# Altium integrated library Avago LED Display 7-Segment, 4-Digit.IntLib: 17 symbols
Pins are listed as number, name and electrical type; pins without a type are passive.

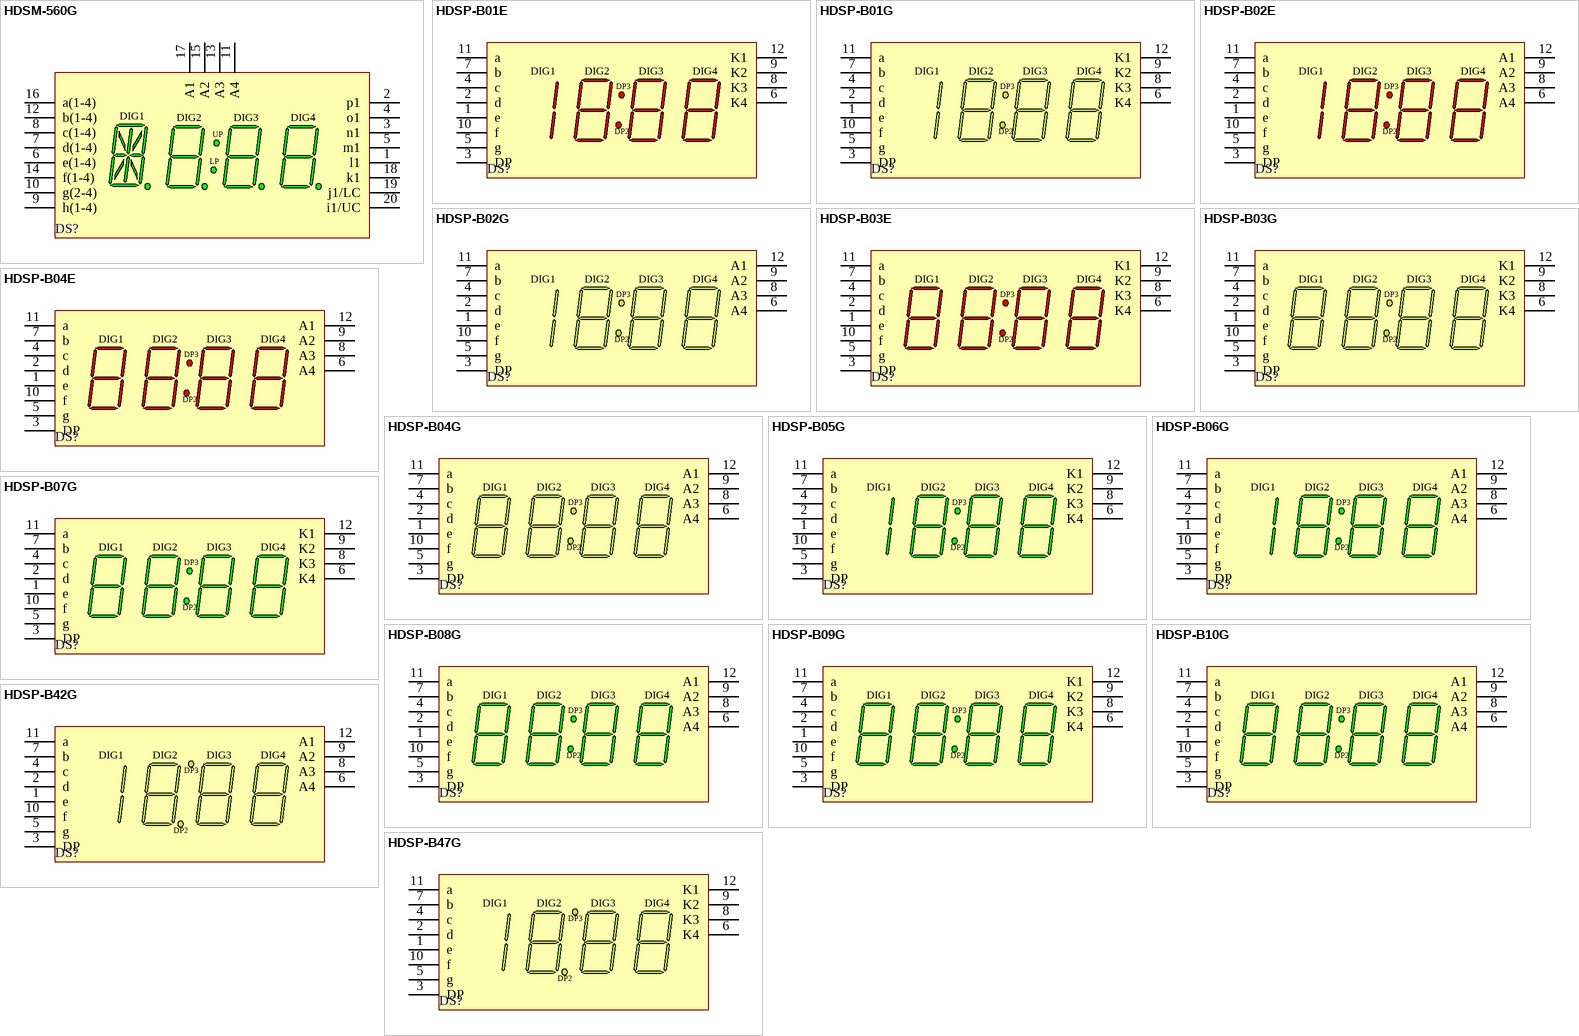
[diagram p0: symbols HDSM-560G to HDSP-B47G]

## HDSM-560G
designator DS?
8.9 mm Black Suface GAP Green 7-Segment Display: 4-Digit, CA; LuminousIntensity: 1250 ucd (Minimum).; Published: 26-May-2004; LatestRevisionDate: 11-Oct-2004; LatestRevisionNote: Display outline superimposed on PCB Footprint.; DatasheetVersion: 21-Jan-2002; PackageVersion: 21-Jan-2002; PackageReference: HDSM-560; Publisher: Altium Limited; PackageDescription: LED, 7-Segment Display, 8.9 mm, Four Digit; 20 Leads; Row Space 12 mm; Pitch 2.54 mm; LED_Colour: Green; ComponentLink1Description: Manufacturer Link; ComponentLink1URL: http://www.agilent.com/; ComponentLink2Description: Datasheet; ComponentLink2URL: http://cp.literature.agilent.com/litweb/pdf/5988-4936EN.pdf
footprint HDSM-560 (LED, 7-Segment Display, 8.9 mm, Four Digit; 20 Leads; Row Space 12 mm; Pitch 2.54 mm)
simulation model HDSM_560G (SUBCKT)
pins: 1 l1 "Digit 1 l Cathode", 2 p1 "Digit 1 p Cathode", 3 n1 "Digit 1 n Cathode", 4 o1 "Digit 1 o Cathode", 5 m1 "Digit 1 m Cathode", 6 e(1-4) "Digits (1-4) e Cathode", 7 d(1-4) "Digits (1-4) d Cathode", 8 c(1-4) "Digits (1-4) c Cathode", 9 h(1-4) "Digits (1-4) DP Cathode", 10 g(2-4) "Digits (2-4) g Cathode", 11 A4 "Digit 4 Common Anode", 12 b(1-4) "Digits (1-4) b Cathode", 13 A3 "Digit 3 Common Anode", 14 f(1-4) "Digits (1-4) f Cathode", 15 A2 "Digit 2 Common Anode", 16 a(1-4) "Digits (1-4) a Cathode", 17 A1 "Digit 1 Common Anode", 18 k1 "Digit 1 k Cathode", 19 j1/LC "Digit 1 j, LC Cathode", 20 i1/UC "Digit 1 i, UC Cathode"
text: DIG1; DIG2; DIG3; DIG4; UP; LP

## HDSP-B01E
designator DS?
14.22 mm GaP HER, Untinted, 18:88 4-Digit 7-Segment Display: CC, Gray Surface; LuminousIntensity: 3200 ucd (Minimum).; LED_Colour: High Efficiency Red (HER); Published: 26-May-2004; LatestRevisionDate: 02-Mar-2006; LatestRevisionNote: Footprint corrected.; DatasheetVersion: 21-Aug-2001; PackageVersion: 21-Aug-2001; PackageReference: B-18; Publisher: Altium Limited; PackageDescription: LED, 7-Segment Display, 14.22 mm, Four Digit, 18:88; 12 Leads; Row Space 15.24 mm; Pitch 2.54 mm; ComponentLink1Description: Manufacturer Link; ComponentLink1URL: http://www.agilent.com/; ComponentLink2Description: Datasheet; ComponentLink2URL: http://cp.literature.agilent.com/litweb/pdf/5988-3569EN.pdf
footprint B-18 (LED, 7-Segment Display, 14.22 mm, Four Digit, 18:88; 12 Leads; Row Space 15.24 mm; Pitch 2.54 mm)
simulation model HDSP_B01E (SUBCKT)
pins: 1 e "Digits (2-4) e Anode", 2 d "Digits (2-4) d Anode", 3 DP "Digits (2,3) DP Anode", 4 c "Digits (1-4) c Anode", 5 g "Digits (2-4) g Anode", 6 K4 "Digit 4 Common Cathode", 7 b "Digits (1-4) b Anode", 8 K3 "Digit 3 Common Cathode", 9 K2 "Digit 2 Common Cathode", 10 f "Digits (2-4) f Anode", 11 a "Digits (2-4) a Anode", 12 K1 "Digit 1 Common Cathode"
text: DIG1; DIG2; DIG3; DIG4; DP3; DP2

## HDSP-B01G
designator DS?
14.22 mm Tinted Green, 18:88 4-Digit 7-Segment Display: CC, Gray Surface; LuminousIntensity: 2000 ucd (Minimum).; Published: 26-May-2004; LatestRevisionDate: 02-Mar-2006; LatestRevisionNote: Footprint corrected.; DatasheetVersion: 23-Sep-2002; PackageVersion: 21-Aug-2001; PackageReference: B-18; Publisher: Altium Limited; PackageDescription: LED, 7-Segment Display, 14.22 mm, Four Digit, 18:88; 12 Leads; Row Space 15.24 mm; Pitch 2.54 mm; LED_Colour: Green; ComponentLink1Description: Manufacturer Link; ComponentLink1URL: http://www.agilent.com/; ComponentLink2Description: Datasheet; ComponentLink2URL: http://cp.literature.agilent.com/litweb/pdf/5988-7859EN.pdf
footprint B-18 (LED, 7-Segment Display, 14.22 mm, Four Digit, 18:88; 12 Leads; Row Space 15.24 mm; Pitch 2.54 mm)
simulation model HDSP_B01G (SUBCKT)
pins: 1 e "Digits (2-4) e Anode", 2 d "Digits (2-4) d Anode", 3 DP "Digits (2,3) DP Anode", 4 c "Digits (1-4) c Anode", 5 g "Digits (2-4) g Anode", 6 K4 "Digit 4 Common Cathode", 7 b "Digits (1-4) b Anode", 8 K3 "Digit 3 Common Cathode", 9 K2 "Digit 2 Common Cathode", 10 f "Digits (2-4) f Anode", 11 a "Digits (2-4) a Anode", 12 K1 "Digit 1 Common Cathode"
text: DIG1; DIG2; DIG3; DIG4; DP3; DP2

## HDSP-B02E
designator DS?
14.22 mm GaP HER, Untinted, 18:88 4-Digit 7-Segment Display: CA, Gray Surface; LuminousIntensity: 3200 ucd (Minimum).; LED_Colour: High Efficiency Red (HER); Published: 26-May-2004; LatestRevisionDate: 02-Mar-2006; LatestRevisionNote: Footprint corrected.; DatasheetVersion: 21-Aug-2001; PackageVersion: 21-Aug-2001; PackageReference: B-18; Publisher: Altium Limited; PackageDescription: LED, 7-Segment Display, 14.22 mm, Four Digit, 18:88; 12 Leads; Row Space 15.24 mm; Pitch 2.54 mm; ComponentLink1Description: Manufacturer Link; ComponentLink1URL: http://www.agilent.com/; ComponentLink2Description: Datasheet; ComponentLink2URL: http://cp.literature.agilent.com/litweb/pdf/5988-3569EN.pdf
footprint B-18 (LED, 7-Segment Display, 14.22 mm, Four Digit, 18:88; 12 Leads; Row Space 15.24 mm; Pitch 2.54 mm)
simulation model HDSP_B02E (SUBCKT)
pins: 1 e "Digits (2-4) e Cathode", 2 d "Digits (2-4) d Cathode", 3 DP "Digits (2,3) DP Cathode", 4 c "Digits (1-4) c Cathode", 5 g "Digits (2-4) g Cathode", 6 A4 "Digit 4 Common Anode", 7 b "Digits (1-4) b Cathode", 8 A3 "Digit 3 Common Anode", 9 A2 "Digit 2 Common Anode", 10 f "Digits (2-4) f Cathode", 11 a "Digits (2-4) a Cathode", 12 A1 "Digit 1 Common Anode"
text: DIG1; DIG2; DIG3; DIG4; DP3; DP2

## HDSP-B02G
designator DS?
14.22 mm Tinted Green, 18:88 4-Digit 7-Segment Display: CA, Gray Surface; LuminousIntensity: 2000 ucd (Minimum).; Published: 26-May-2004; LatestRevisionDate: 02-Mar-2006; LatestRevisionNote: Footprint corrected.; DatasheetVersion: 23-Sep-2002; PackageVersion: 21-Aug-2001; PackageReference: B-18; Publisher: Altium Limited; PackageDescription: LED, 7-Segment Display, 14.22 mm, Four Digit, 18:88; 12 Leads; Row Space 15.24 mm; Pitch 2.54 mm; LED_Colour: Green; ComponentLink1Description: Manufacturer Link; ComponentLink1URL: http://www.agilent.com/; ComponentLink2Description: Datasheet; ComponentLink2URL: http://cp.literature.agilent.com/litweb/pdf/5988-7859EN.pdf
footprint B-18 (LED, 7-Segment Display, 14.22 mm, Four Digit, 18:88; 12 Leads; Row Space 15.24 mm; Pitch 2.54 mm)
simulation model HDSP_B02G (SUBCKT)
pins: 1 e "Digits (2-4) e Cathode", 2 d "Digits (2-4) d Cathode", 3 DP "Digits (2,3) DP Cathode", 4 c "Digits (1-4) c Cathode", 5 g "Digits (2-4) g Cathode", 6 A4 "Digit 4 Common Anode", 7 b "Digits (1-4) b Cathode", 8 A3 "Digit 3 Common Anode", 9 A2 "Digit 2 Common Anode", 10 f "Digits (2-4) f Cathode", 11 a "Digits (2-4) a Cathode", 12 A1 "Digit 1 Common Anode"
text: DIG1; DIG2; DIG3; DIG4; DP3; DP2

## HDSP-B03E
designator DS?
14.22 mm GaP HER, Untinted, 88:88 4-Digit 7-Segment Display: CC, Gray Surface; LuminousIntensity: 3200 ucd (Minimum).; LED_Colour: High Efficiency Red (HER); Published: 26-May-2004; LatestRevisionDate: 11-Oct-2004; LatestRevisionNote: Display outline superimposed on PCB Footprint.; DatasheetVersion: 21-Aug-2001; PackageVersion: 21-Aug-2001; PackageReference: B-88; Publisher: Altium Limited; PackageDescription: LED, 7-Segment Display, 14.22 mm, Four Digit, 88:88; 12 Leads; Row Space 15.24 mm; Pitch 2.54 mm; ComponentLink1Description: Manufacturer Link; ComponentLink1URL: http://www.agilent.com/; ComponentLink2Description: Datasheet; ComponentLink2URL: http://cp.literature.agilent.com/litweb/pdf/5988-3569EN.pdf
footprint B-88 (LED, 7-Segment Display, 14.22 mm, Four Digit, 88:88; 12 Leads; Row Space 15.24 mm; Pitch 2.54 mm)
simulation model HDSP_B03E (SUBCKT)
pins: 1 e "Digits (1-4) e Anode", 2 d "Digits (1-4) d Anode", 3 DP "Digits (2,3) DP Anode", 4 c "Digits (1-4) c Anode", 5 g "Digits (1-4) g Anode", 6 K4 "Digit 4 Common Cathode", 7 b "Digits (1-4) b Anode", 8 K3 "Digit 3 Common Cathode", 9 K2 "Digit 2 Common Cathode", 10 f "Digits (1-4) f Anode", 11 a "Digits (1-4) a Anode", 12 K1 "Digit 1 Common Cathode"
text: DIG1; DIG2; DIG3; DIG4; DP3; DP2

## HDSP-B03G
designator DS?
14.22 mm Tinted Green, 88:88 4-Digit 7-Segment Display: CC, Gray Surface; LuminousIntensity: 2000 ucd (Minimum).; Published: 26-May-2004; LatestRevisionDate: 11-Oct-2004; LatestRevisionNote: Display outline superimposed on PCB Footprint.; DatasheetVersion: 23-Sep-2002; PackageVersion: 21-Aug-2001; PackageReference: B-88; Publisher: Altium Limited; PackageDescription: LED, 7-Segment Display, 14.22 mm, Four Digit, 88:88; 12 Leads; Row Space 15.24 mm; Pitch 2.54 mm; LED_Colour: Green; ComponentLink1Description: Manufacturer Link; ComponentLink1URL: http://www.agilent.com/; ComponentLink2Description: Datasheet; ComponentLink2URL: http://cp.literature.agilent.com/litweb/pdf/5988-7859EN.pdf
footprint B-88 (LED, 7-Segment Display, 14.22 mm, Four Digit, 88:88; 12 Leads; Row Space 15.24 mm; Pitch 2.54 mm)
simulation model HDSP_B03G (SUBCKT)
pins: 1 e "Digits (1-4) e Anode", 2 d "Digits (1-4) d Anode", 3 DP "Digits (2,3) DP Anode", 4 c "Digits (1-4) c Anode", 5 g "Digits (1-4) g Anode", 6 K4 "Digit 4 Common Cathode", 7 b "Digits (1-4) b Anode", 8 K3 "Digit 3 Common Cathode", 9 K2 "Digit 2 Common Cathode", 10 f "Digits (1-4) f Anode", 11 a "Digits (1-4) a Anode", 12 K1 "Digit 1 Common Cathode"
text: DIG1; DIG2; DIG3; DIG4; DP3; DP2

## HDSP-B04E
designator DS?
14.22 mm GaP HER, Untinted, 88:88 4-Digit 7-Segment Display: CA, Gray Surface; LuminousIntensity: 3200 ucd (Minimum).; LED_Colour: High Efficiency Red (HER); Published: 26-May-2004; LatestRevisionDate: 11-Oct-2004; LatestRevisionNote: Display outline superimposed on PCB Footprint.; DatasheetVersion: 21-Aug-2001; PackageVersion: 21-Aug-2001; PackageReference: B-88; Publisher: Altium Limited; PackageDescription: LED, 7-Segment Display, 14.22 mm, Four Digit, 88:88; 12 Leads; Row Space 15.24 mm; Pitch 2.54 mm; ComponentLink1Description: Manufacturer Link; ComponentLink1URL: http://www.agilent.com/; ComponentLink2Description: Datasheet; ComponentLink2URL: http://cp.literature.agilent.com/litweb/pdf/5988-3569EN.pdf
footprint B-88 (LED, 7-Segment Display, 14.22 mm, Four Digit, 88:88; 12 Leads; Row Space 15.24 mm; Pitch 2.54 mm)
simulation model HDSP_B04E (SUBCKT)
pins: 1 e "Digits (1-4) e Cathode", 2 d "Digits (1-4) d Cathode", 3 DP "Digits (2,3) DP Cathode", 4 c "Digits (1-4) c Cathode", 5 g "Digits (1-4) g Cathode", 6 A4 "Digit 4 Common Anode", 7 b "Digits (1-4) b Cathode", 8 A3 "Digit 3 Common Anode", 9 A2 "Digit 2 Common Anode", 10 f "Digits (1-4) f Cathode", 11 a "Digits (1-4) a Cathode", 12 A1 "Digit 1 Common Anode"
text: DIG1; DIG2; DIG3; DIG4; DP3; DP2

## HDSP-B04G
designator DS?
14.22 mm Tinted Green, 88:88 4-Digit 7-Segment Display: CA, Gray Surface; LuminousIntensity: 2000 ucd (Minimum).; Published: 26-May-2004; LatestRevisionDate: 11-Oct-2004; LatestRevisionNote: Display outline superimposed on PCB Footprint.; DatasheetVersion: 23-Sep-2002; PackageVersion: 21-Aug-2001; PackageReference: B-88; Publisher: Altium Limited; PackageDescription: LED, 7-Segment Display, 14.22 mm, Four Digit, 88:88; 12 Leads; Row Space 15.24 mm; Pitch 2.54 mm; LED_Colour: Green; ComponentLink1Description: Manufacturer Link; ComponentLink1URL: http://www.agilent.com/; ComponentLink2Description: Datasheet; ComponentLink2URL: http://cp.literature.agilent.com/litweb/pdf/5988-7859EN.pdf
footprint B-88 (LED, 7-Segment Display, 14.22 mm, Four Digit, 88:88; 12 Leads; Row Space 15.24 mm; Pitch 2.54 mm)
simulation model HDSP_B04G (SUBCKT)
pins: 1 e "Digits (1-4) e Cathode", 2 d "Digits (1-4) d Cathode", 3 DP "Digits (2,3) DP Cathode", 4 c "Digits (1-4) c Cathode", 5 g "Digits (1-4) g Cathode", 6 A4 "Digit 4 Common Anode", 7 b "Digits (1-4) b Cathode", 8 A3 "Digit 3 Common Anode", 9 A2 "Digit 2 Common Anode", 10 f "Digits (1-4) f Cathode", 11 a "Digits (1-4) a Cathode", 12 A1 "Digit 1 Common Anode"
text: DIG1; DIG2; DIG3; DIG4; DP3; DP2

## HDSP-B05G
designator DS?
14.22 mm Untinted, 18:88 4-Digit 7-Segment Display: CC, Gray Surface; LuminousIntensity: 3200 ucd (Minimum).; LED_Colour: Green; Published: 26-May-2004; LatestRevisionDate: 02-Mar-2006; LatestRevisionNote: Footprint corrected.; DatasheetVersion: 23-Sep-2002; PackageVersion: 21-Aug-2001; PackageReference: B-18; Publisher: Altium Limited; PackageDescription: LED, 7-Segment Display, 14.22 mm, Four Digit, 18:88; 12 Leads; Row Space 15.24 mm; Pitch 2.54 mm; ComponentLink1Description: Manufacturer Link; ComponentLink1URL: http://www.agilent.com/; ComponentLink2Description: Datasheet; ComponentLink2URL: http://cp.literature.agilent.com/litweb/pdf/5988-7859EN.pdf
footprint B-18 (LED, 7-Segment Display, 14.22 mm, Four Digit, 18:88; 12 Leads; Row Space 15.24 mm; Pitch 2.54 mm)
simulation model HDSP_B01G (SUBCKT)
pins: 1 e "Digits (2-4) e Anode", 2 d "Digits (2-4) d Anode", 3 DP "Digits (2,3) DP Anode", 4 c "Digits (1-4) c Anode", 5 g "Digits (2-4) g Anode", 6 K4 "Digit 4 Common Cathode", 7 b "Digits (1-4) b Anode", 8 K3 "Digit 3 Common Cathode", 9 K2 "Digit 2 Common Cathode", 10 f "Digits (2-4) f Anode", 11 a "Digits (2-4) a Anode", 12 K1 "Digit 1 Common Cathode"
text: DIG1; DIG2; DIG3; DIG4; DP3; DP2

## HDSP-B06G
designator DS?
14.22 mm Untinted, 18:88 4-Digit 7-Segment Display: CA, Gray Surface; LuminousIntensity: 3200 ucd (Minimum).; LED_Colour: Green; Published: 26-May-2004; LatestRevisionDate: 02-Mar-2006; LatestRevisionNote: Footprint corrected.; DatasheetVersion: 23-Sep-2002; PackageVersion: 21-Aug-2001; PackageReference: B-18; Publisher: Altium Limited; PackageDescription: LED, 7-Segment Display, 14.22 mm, Four Digit, 18:88; 12 Leads; Row Space 15.24 mm; Pitch 2.54 mm; ComponentLink1Description: Manufacturer Link; ComponentLink1URL: http://www.agilent.com/; ComponentLink2Description: Datasheet; ComponentLink2URL: http://cp.literature.agilent.com/litweb/pdf/5988-7859EN.pdf
footprint B-18 (LED, 7-Segment Display, 14.22 mm, Four Digit, 18:88; 12 Leads; Row Space 15.24 mm; Pitch 2.54 mm)
simulation model HDSP_B02G (SUBCKT)
pins: 1 e "Digits (2-4) e Cathode", 2 d "Digits (2-4) d Cathode", 3 DP "Digits (2,3) DP Cathode", 4 c "Digits (1-4) c Cathode", 5 g "Digits (2-4) g Cathode", 6 A4 "Digit 4 Common Anode", 7 b "Digits (1-4) b Cathode", 8 A3 "Digit 3 Common Anode", 9 A2 "Digit 2 Common Anode", 10 f "Digits (2-4) f Cathode", 11 a "Digits (2-4) a Cathode", 12 A1 "Digit 1 Common Anode"
text: DIG1; DIG2; DIG3; DIG4; DP3; DP2

## HDSP-B07G
designator DS?
14.22 mm Untinted, 88:88 4-Digit 7-Segment Display: CC, Gray Surface; LuminousIntensity: 3200 ucd (Minimum).; LED_Colour: Green; Published: 26-May-2004; LatestRevisionDate: 11-Oct-2004; LatestRevisionNote: Display outline superimposed on PCB Footprint.; DatasheetVersion: 23-Sep-2002; PackageVersion: 21-Aug-2001; PackageReference: B-88; Publisher: Altium Limited; PackageDescription: LED, 7-Segment Display, 14.22 mm, Four Digit, 88:88; 12 Leads; Row Space 15.24 mm; Pitch 2.54 mm; ComponentLink1Description: Manufacturer Link; ComponentLink1URL: http://www.agilent.com/; ComponentLink2Description: Datasheet; ComponentLink2URL: http://cp.literature.agilent.com/litweb/pdf/5988-7859EN.pdf
footprint B-88 (LED, 7-Segment Display, 14.22 mm, Four Digit, 88:88; 12 Leads; Row Space 15.24 mm; Pitch 2.54 mm)
simulation model HDSP_B03G (SUBCKT)
pins: 1 e "Digits (1-4) e Anode", 2 d "Digits (1-4) d Anode", 3 DP "Digits (2,3) DP Anode", 4 c "Digits (1-4) c Anode", 5 g "Digits (1-4) g Anode", 6 K4 "Digit 4 Common Cathode", 7 b "Digits (1-4) b Anode", 8 K3 "Digit 3 Common Cathode", 9 K2 "Digit 2 Common Cathode", 10 f "Digits (1-4) f Anode", 11 a "Digits (1-4) a Anode", 12 K1 "Digit 1 Common Cathode"
text: DIG1; DIG2; DIG3; DIG4; DP3; DP2

## HDSP-B08G
designator DS?
14.22 mm Untinted, 88:88 4-Digit 7-Segment Display: CA, Gray Surface; LuminousIntensity: 3200 ucd (Minimum).; LED_Colour: Green; Published: 26-May-2004; LatestRevisionDate: 11-Oct-2004; LatestRevisionNote: Display outline superimposed on PCB Footprint.; DatasheetVersion: 23-Sep-2002; PackageVersion: 21-Aug-2001; PackageReference: B-88; Publisher: Altium Limited; PackageDescription: LED, 7-Segment Display, 14.22 mm, Four Digit, 88:88; 12 Leads; Row Space 15.24 mm; Pitch 2.54 mm; ComponentLink1Description: Manufacturer Link; ComponentLink1URL: http://www.agilent.com/; ComponentLink2Description: Datasheet; ComponentLink2URL: http://cp.literature.agilent.com/litweb/pdf/5988-7859EN.pdf
footprint B-88 (LED, 7-Segment Display, 14.22 mm, Four Digit, 88:88; 12 Leads; Row Space 15.24 mm; Pitch 2.54 mm)
simulation model HDSP_B04G (SUBCKT)
pins: 1 e "Digits (1-4) e Cathode", 2 d "Digits (1-4) d Cathode", 3 DP "Digits (2,3) DP Cathode", 4 c "Digits (1-4) c Cathode", 5 g "Digits (1-4) g Cathode", 6 A4 "Digit 4 Common Anode", 7 b "Digits (1-4) b Cathode", 8 A3 "Digit 3 Common Anode", 9 A2 "Digit 2 Common Anode", 10 f "Digits (1-4) f Cathode", 11 a "Digits (1-4) a Cathode", 12 A1 "Digit 1 Common Anode"
text: DIG1; DIG2; DIG3; DIG4; DP3; DP2

## HDSP-B09G
designator DS?
14.22 mm Untinted, 88:88 4-Digit 7-Segment Display: CC, Black Surface; LuminousIntensity: 3200 ucd (Minimum).; LED_Colour: Green; Published: 26-May-2004; LatestRevisionDate: 11-Oct-2004; LatestRevisionNote: Display outline superimposed on PCB Footprint.; DatasheetVersion: 23-Sep-2002; PackageVersion: 21-Aug-2001; PackageReference: B-88; Publisher: Altium Limited; PackageDescription: LED, 7-Segment Display, 14.22 mm, Four Digit, 88:88; 12 Leads; Row Space 15.24 mm; Pitch 2.54 mm; ComponentLink1Description: Manufacturer Link; ComponentLink1URL: http://www.agilent.com/; ComponentLink2Description: Datasheet; ComponentLink2URL: http://cp.literature.agilent.com/litweb/pdf/5988-7859EN.pdf
footprint B-88 (LED, 7-Segment Display, 14.22 mm, Four Digit, 88:88; 12 Leads; Row Space 15.24 mm; Pitch 2.54 mm)
simulation model HDSP_B03G (SUBCKT)
pins: 1 e "Digits (1-4) e Anode", 2 d "Digits (1-4) d Anode", 3 DP "Digits (2,3) DP Anode", 4 c "Digits (1-4) c Anode", 5 g "Digits (1-4) g Anode", 6 K4 "Digit 4 Common Cathode", 7 b "Digits (1-4) b Anode", 8 K3 "Digit 3 Common Cathode", 9 K2 "Digit 2 Common Cathode", 10 f "Digits (1-4) f Anode", 11 a "Digits (1-4) a Anode", 12 K1 "Digit 1 Common Cathode"
text: DIG1; DIG2; DIG3; DIG4; DP3; DP2

## HDSP-B10G
designator DS?
14.22 mm Untinted, 88:88 4-Digit 7-Segment Display: CA, Black Surface; LuminousIntensity: 3200 ucd (Minimum).; LED_Colour: Green; Published: 26-May-2004; LatestRevisionDate: 11-Oct-2004; LatestRevisionNote: Display outline superimposed on PCB Footprint.; DatasheetVersion: 23-Sep-2002; PackageVersion: 21-Aug-2001; PackageReference: B-88; Publisher: Altium Limited; PackageDescription: LED, 7-Segment Display, 14.22 mm, Four Digit, 88:88; 12 Leads; Row Space 15.24 mm; Pitch 2.54 mm; ComponentLink1Description: Manufacturer Link; ComponentLink1URL: http://www.agilent.com/; ComponentLink2Description: Datasheet; ComponentLink2URL: http://cp.literature.agilent.com/litweb/pdf/5988-7859EN.pdf
footprint B-88 (LED, 7-Segment Display, 14.22 mm, Four Digit, 88:88; 12 Leads; Row Space 15.24 mm; Pitch 2.54 mm)
simulation model HDSP_B04G (SUBCKT)
pins: 1 e "Digits (1-4) e Cathode", 2 d "Digits (1-4) d Cathode", 3 DP "Digits (2,3) DP Cathode", 4 c "Digits (1-4) c Cathode", 5 g "Digits (1-4) g Cathode", 6 A4 "Digit 4 Common Anode", 7 b "Digits (1-4) b Cathode", 8 A3 "Digit 3 Common Anode", 9 A2 "Digit 2 Common Anode", 10 f "Digits (1-4) f Cathode", 11 a "Digits (1-4) a Cathode", 12 A1 "Digit 1 Common Anode"
text: DIG1; DIG2; DIG3; DIG4; DP3; DP2

## HDSP-B42G
designator DS?
14.22 mm Tinted Green, 18:88 4-Digit 7-Segment Display: CA, Neutral Gray Surface; LuminousIntensity: 2000 ucd (Minimum).; Published: 26-May-2004; LatestRevisionDate: 11-Oct-2004; LatestRevisionNote: Display outline superimposed on PCB Footprint.; DatasheetVersion: 20-Nov-2001; PackageVersion: 20-Nov-2001; PackageReference: HDSP-B4; Publisher: Altium Limited; PackageDescription: LED, 7-Segment Display, 14.22 mm, Four Digit, 18:88; 12 Leads; Row Space 15.24 mm; Pitch 2.54 mm; LED_Colour: Green; ComponentLink1Description: Manufacturer Link; ComponentLink1URL: http://www.agilent.com/; ComponentLink2Description: Datasheet; ComponentLink2URL: http://cp.literature.agilent.com/litweb/pdf/5988-4820EN.pdf
footprint HDSP-B4 (LED, 7-Segment Display, 14.22 mm, Four Digit, 18:88; 12 Leads; Row Space 15.24 mm; Pitch 2.54 mm)
simulation model HDSP_B42G (SUBCKT)
pins: 1 e "Digits (2-4) e Cathode", 2 d "Digits (2-4) d Cathode", 3 DP "Digits (2,3) DP Cathode", 4 c "Digits (1-4) c Cathode", 5 g "Digits (2-4) g Cathode", 6 A4 "Digit 4 Common Anode", 7 b "Digits (1-4) b Cathode", 8 A3 "Digit 3 Common Anode", 9 A2 "Digit 2 Common Anode", 10 f "Digits (2-4) f Cathode", 11 a "Digits (2-4) a Cathode", 12 A1 "Digit 1 Common Anode"
text: DIG1; DIG2; DIG3; DIG4; DP3; DP2

## HDSP-B47G
designator DS?
14.22 mm Tinted Green, 18:88 4-Digit 7-Segment Display: CC, Neutral Gray Surface; LuminousIntensity: 2000 ucd (Minimum).; Published: 26-May-2004; LatestRevisionDate: 11-Oct-2004; LatestRevisionNote: Display outline superimposed on PCB Footprint.; DatasheetVersion: 20-Nov-2001; PackageVersion: 20-Nov-2001; PackageReference: HDSP-B4; Publisher: Altium Limited; PackageDescription: LED, 7-Segment Display, 14.22 mm, Four Digit, 18:88; 12 Leads; Row Space 15.24 mm; Pitch 2.54 mm; LED_Colour: Green; ComponentLink1Description: Manufacturer Link; ComponentLink1URL: http://www.agilent.com/; ComponentLink2Description: Datasheet; ComponentLink2URL: http://cp.literature.agilent.com/litweb/pdf/5988-4820EN.pdf
footprint HDSP-B4 (LED, 7-Segment Display, 14.22 mm, Four Digit, 18:88; 12 Leads; Row Space 15.24 mm; Pitch 2.54 mm)
simulation model HDSP_B47G (SUBCKT)
pins: 1 e "Digits (2-4) e Anode", 2 d "Digits (2-4) d Anode", 3 DP "Digits (2,3) DP Anode", 4 c "Digits (1-4) c Anode", 5 g "Digits (2-4) g Anode", 6 K4 "Digit 4 Common Cathode", 7 b "Digits (1-4) b Anode", 8 K3 "Digit 3 Common Cathode", 9 K2 "Digit 2 Common Cathode", 10 f "Digits (2-4) f Anode", 11 a "Digits (2-4) a Anode", 12 K1 "Digit 1 Common Cathode"
text: DIG1; DIG2; DIG3; DIG4; DP3; DP2